# Altium footprint library 61400416021.PcbLib: 1 footprints
Each footprint in its own frame and in the unit in brackets; x right, y up, seen from the top. Pads: shape width x height; smd on the part's side, far side on the other; paste and mask are expansions set on the pad; w line width, h text height; cw(c..) or ccw(c..) is an arc to the next point about the centre after c.
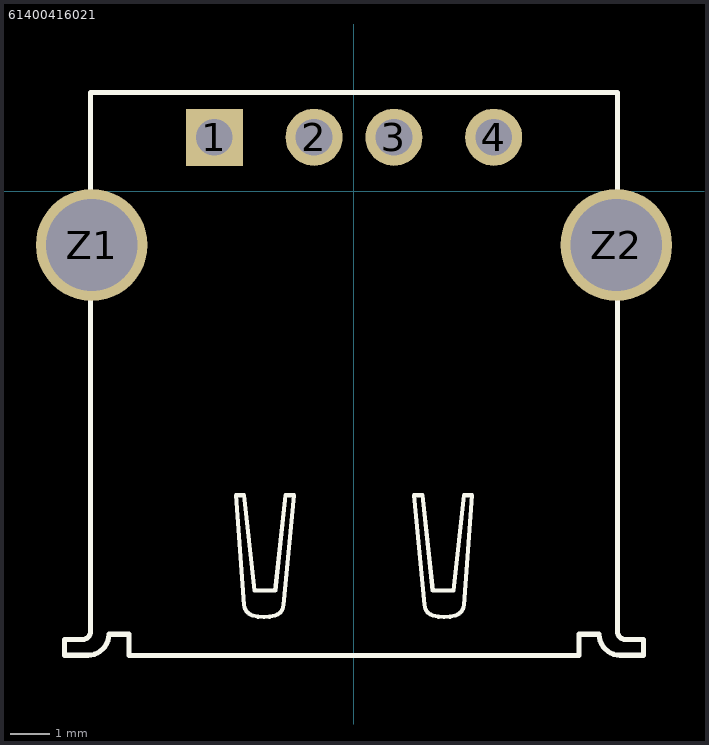
[diagram p0: the footprint, top view; thin cyan lines are the x and y axes]

## 61400416021 [mm] "4 pins"
height 6.95
pads (6):
  rect 1.428x1.428 hole 0.92: 1(-3.5,1.35)
  round 1.428 hole 0.92: 2(-1,1.35) 3(1,1.35) 4(3.5,1.35)
  round 2.8 hole 2.3: Z1(-6.57,-1.35) Z2(6.57,-1.35)
Top Overlay:
  lines w0.102: -2.544,-10.628 cw(c-2.457,-10.346) -2.751,-10.369 -2.959,-7.617 -2.751,-7.617 -2.492,-10.005 -1.973,-10.005 -1.713,-7.617 -1.505,-7.617 -1.765,-10.369 cw(c-2.059,-10.346) -1.973,-10.628 ; -2.544,-10.628 ccw(c-2.258,-9.697) -1.973,-10.628 ; 1.973,-10.628 cw(c2.059,-10.346) 1.765,-10.369 1.505,-7.617 1.713,-7.617 1.973,-10.005 2.492,-10.005 2.751,-7.617 2.959,-7.617 2.751,-10.369 cw(c2.457,-10.346) 2.544,-10.628 ; 1.973,-10.628 ccw(c2.258,-9.697) 2.544,-10.628
  lines w0.127: -7.25,-11.625 -7.25,-11.23 -6.798,-11.23 ccw(c-6.798,-11.033) -6.601,-11.033 -6.6,2.47 6.6,2.47 6.6,-11.033 ccw(c6.798,-11.033) 6.798,-11.23 7.25,-11.23 7.25,-11.625 6.666,-11.625 cw(c6.666,-11.098) 6.14,-11.098 5.64,-11.098 5.64,-11.63 -5.64,-11.63 -5.64,-11.098 -6.14,-11.098 cw(c-6.666,-11.098) -6.666,-11.625 -7.25,-11.625
3D body "61400416021.stp": height 7.71, standoff -3.69, extent -7.9,-11.63 7.9,2.47